# Altium schematic symbol library QUTMS_PCBLibrary.SchLib: 32 symbols
Pins are listed as number, name and electrical type; pins without a type are passive.

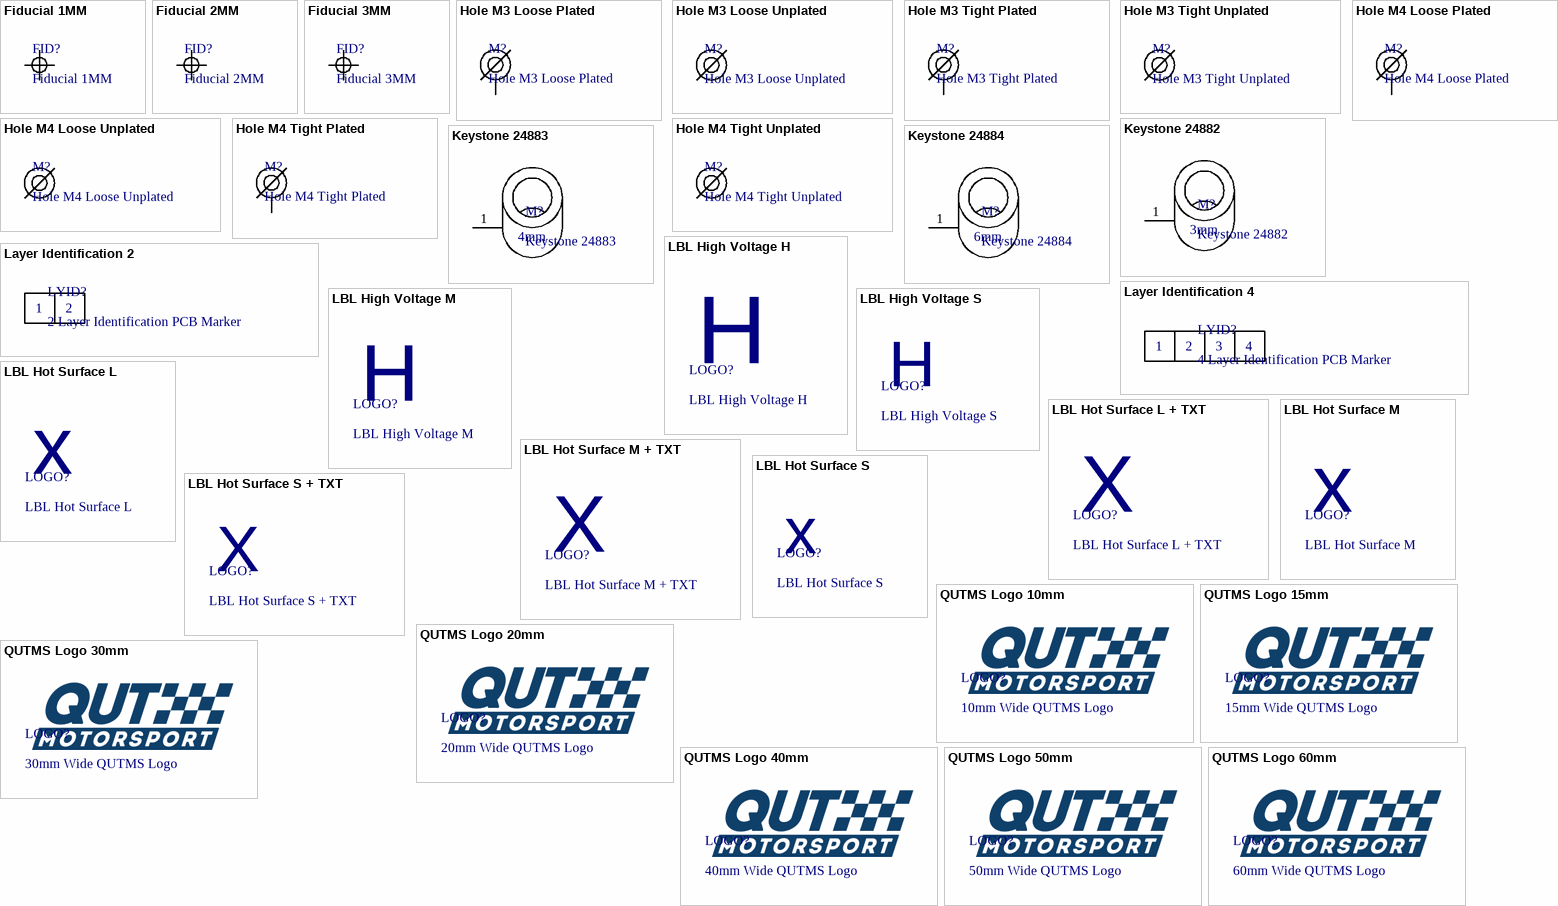
[diagram p0: symbols Fiducial 1MM to QUTMS Logo 60mm]

## Fiducial 1MM
designator FID?  (no BOM)
footprint FIDUCIAL 1MM

## Fiducial 2MM
designator FID?  (no BOM)
footprint FIDUCIAL 2MM

## Fiducial 3MM
designator FID?  (no BOM)
footprint FIDUCIAL 3MM

## Hole M3 Loose Plated
designator M?  (no BOM)
M3.5 Hole, Plated
footprint M3.5 PLATED
footprint M3.5 PLATED SPECIAL
pins: 1

## Hole M3 Loose Unplated
designator M?  (no BOM)
M3.5 Hole, No Plating
footprint M3.5 UNPLATED

## Hole M3 Tight Plated
designator M?  (no BOM)
M3.2 Hole, Plated
footprint M3.2 PLATED
footprint M3.2 PLATED SPECIAL
pins: 1

## Hole M3 Tight Unplated
designator M?  (no BOM)
M3.2 Hole, No Plating
footprint M3.2 UNPLATED

## Hole M4 Loose Plated
designator M?  (no BOM)
M4.5 Hole, Plated
footprint M4.5 PLATED
pins: 1

## Hole M4 Loose Unplated
designator M?  (no BOM)
M4.5 Hole, No Plating
footprint M4.5 UNPLATED

## Hole M4 Tight Plated
designator M?  (no BOM)
M4.2 Hole, Plated
footprint M4.2 PLATED
pins: 1

## Hole M4 Tight Unplated
designator M?  (no BOM)
M4.2 Hole, No Plating
footprint M4.2 UNPLATED

## Keystone 24882
designator M?
Round Standoff Threaded M3x0.5 Steel 0.120" (3.05mm)
footprint Keystone 24882
pins: 1
text: 3mm

## Keystone 24883
designator M?
Round Standoff Threaded M3x0.5 Steel 0.160" (4.06mm)
footprint Keystone 24883
pins: 1
text: 4mm

## Keystone 24884
designator M?
Round Standoff Threaded M3x0.5 Steel 0.236" (5.99mm)
footprint Keystone 24884
pins: 1
text: 6mm

## Layer Identification 2
designator LYID?, comment 2 Layer Identification PCB Marker  (no BOM)
footprint LAYER IDENT 2
text: 1; 2

## Layer Identification 4
designator LYID?, comment 4 Layer Identification PCB Marker  (no BOM)
footprint LAYER IDENT 4
text: 1; 2; 3; 4

## LBL High Voltage H
designator LOGO?  (no BOM)
footprint LBL HV LARGE
text: H

## LBL High Voltage M
designator LOGO?  (no BOM)
footprint LBL HV MEDIUM
text: H

## LBL High Voltage S
designator LOGO?  (no BOM)
footprint LBL HV SMALL
text: H

## LBL Hot Surface L
designator LOGO?  (no BOM)
footprint LBL HOT LARGE
text: x

## LBL Hot Surface L + TXT
designator LOGO?  (no BOM)
footprint LBL HOT LARGE TXT
text: X

## LBL Hot Surface M
designator LOGO?  (no BOM)
footprint LBL HOT MEDIUM
text: x

## LBL Hot Surface M + TXT
designator LOGO?  (no BOM)
footprint LBL HOT MEDIUM TXT
text: X

## LBL Hot Surface S
designator LOGO?  (no BOM)
footprint LBL HOT SMALL
text: x

## LBL Hot Surface S + TXT
designator LOGO?  (no BOM)
footprint LBL HOT SMALL TXT
text: X

## QUTMS Logo 10mm
designator LOGO?, comment 10mm Wide QUTMS Logo  (no BOM)
footprint QUTMS LOGO 10MM

## QUTMS Logo 15mm
designator LOGO?, comment 15mm Wide QUTMS Logo  (no BOM)
footprint QUTMS LOGO 15MM

## QUTMS Logo 20mm
designator LOGO?, comment 20mm Wide QUTMS Logo  (no BOM)
footprint QUTMS LOGO 20MM

## QUTMS Logo 30mm
designator LOGO?, comment 30mm Wide QUTMS Logo  (no BOM)
footprint QUTMS LOGO 30MM

## QUTMS Logo 40mm
designator LOGO?, comment 40mm Wide QUTMS Logo  (no BOM)
footprint QUTMS LOGO 40MM

## QUTMS Logo 50mm
designator LOGO?, comment 50mm Wide QUTMS Logo  (no BOM)
footprint QUTMS LOGO 50MM

## QUTMS Logo 60mm
designator LOGO?, comment 60mm Wide QUTMS Logo  (no BOM)
footprint QUTMS LOGO 60MM